# Altium schematic symbol library Pad.SchLib: 3 symbols
Pins are listed as number, name and electrical type; pins without a type are passive.

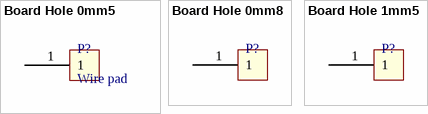
[diagram p0: symbols Board Hole 0mm5 to Board Hole 1mm5]

## Board Hole 0mm5
designator P?, comment Wire pad
footprint Wire pad 0mm5
pins: 1

## Board Hole 0mm8
designator P?, comment Wire Pad  (value not drawn)
footprint Wire pad 0mm8
pins: 1

## Board Hole 1mm5
designator P?, comment Wire Pad  (value not drawn)
footprint Wire pad 1mm5
pins: 1